# Altium schematic symbol library RJ45_CONN.SchLib: 1 symbol
Pins are listed as number, name and electrical type; pins without a type are passive.

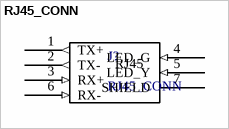
[diagram p0: symbol RJ45_CONN]

## RJ45_CONN
designator J?
RJ45 Ethernet jack
pins: 1 TX+ (out), 2 TX- (out), 3 RX+ (in), 4 LED_G (in), 5 LED_Y (in), 6 RX- (in), 7 SHIELD
text: RJ45